# EAGLE library part ERF8-030-XX-X-D-RA (library con-samtec-er8)
ERF8 Series - Female Right Angle Edge Mount
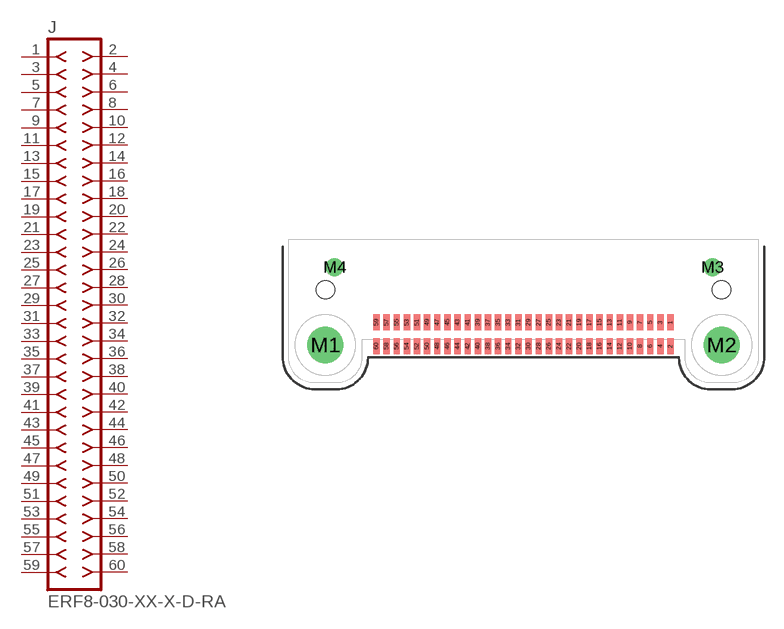
[diagram p35: symbol with the pads of ERF8-030-XX-X-D-RA; footprint ERF8-030-XX-X-D-RA]

Designator prefix J

## ERF8-030-XX-X-D-RA  [ERF8-030-XX-X-D-RA]
1  1  pas
2  2  pas
3  3  pas
4  4  pas
5  5  pas
6  6  pas
7  7  pas
8  8  pas
9  9  pas
10  10  pas
11  11  pas
12  12  pas
13  13  pas
14  14  pas
15  15  pas
16  16  pas
17  17  pas
18  18  pas
19  19  pas
20  20  pas
21  21  pas
22  22  pas
23  23  pas
24  24  pas
25  25  pas
26  26  pas
27  27  pas
28  28  pas
29  29  pas
30  30  pas
31  31  pas
32  32  pas
33  33  pas
34  34  pas
35  35  pas
36  36  pas
37  37  pas
38  38  pas
39  39  pas
40  40  pas
41  41  pas
42  42  pas
43  43  pas
44  44  pas
45  45  pas
46  46  pas
47  47  pas
48  48  pas
49  49  pas
50  50  pas
51  51  pas
52  52  pas
53  53  pas
54  54  pas
55  55  pas
56  56  pas
57  57  pas
58  58  pas
59  59  pas
60  60  pas

## Footprint ERF8-030-XX-X-D-RA (pad centres in mm)
0.8mm Edge Rate Terminal Assembly FEMALE, Double Row Right Angle, 30 Position
smd 0.5 x 1.25: 1 11.6,0.94; 2 11.6,-0.94; 3 10.8,0.94; 4 10.8,-0.94; 5 10,0.94; 6 10,-0.94; 7 9.2,0.94; 8 9.2,-0.94; 9 8.4,0.94; 10 8.4,-0.94; 11 7.6,0.94; 12 7.6,-0.94; 13 6.8,0.94; 14 6.8,-0.94; 15 6,0.94; 16 6,-0.94; 17 5.2,0.94; 18 5.2,-0.94; 19 4.4,0.94; 20 4.4,-0.94; 21 3.6,0.94; 22 3.6,-0.94; 23 2.8,0.94; 24 2.8,-0.94; 25 2,0.94; 26 2,-0.94; 27 1.2,0.94; 28 1.2,-0.94; 29 0.4,0.94; 30 0.4,-0.94; 31 -0.4,0.94; 32 -0.4,-0.94; 33 -1.2,0.94; 34 -1.2,-0.94; 35 -2,0.94; 36 -2,-0.94; 37 -2.8,0.94; 38 -2.8,-0.94; 39 -3.6,0.94; 40 -3.6,-0.94; 41 -4.4,0.94; 42 -4.4,-0.94; 43 -5.2,0.94; 44 -5.2,-0.94; 45 -6,0.94; 46 -6,-0.94; 47 -6.8,0.94; 48 -6.8,-0.94; 49 -7.6,0.94; 50 -7.6,-0.94; 51 -8.4,0.94; 52 -8.4,-0.94; 53 -9.2,0.94; 54 -9.2,-0.94; 55 -10,0.94; 56 -10,-0.94; 57 -10.8,0.94; 58 -10.8,-0.94; 59 -11.6,0.94; 60 -11.6,-0.94
drill 1.905 pad 2.41 round: M1 -15.625,-0.835; M2 15.625,-0.835
drill 0.63 pad 1.4 round: M3 14.9,5.295; M4 -14.9,5.295
hole 1.45 at -15.625,3.515
hole 1.45 at 15.625,3.515